# EAGLE library part USB-5P (library BaseApp)
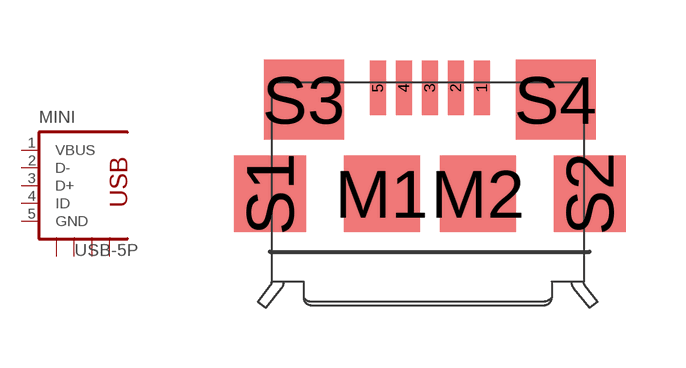
[diagram p46: symbol with the pads of USB-MINI-B; footprint USB-MINI-B]

Designator prefix MINI

## USB-5P  [USB-MINI-B]
1  VBUS  pas
2  D-  pas
3  D+  pas
4  ID  pas
5  GND  pas
S1  S1  pas
S2  S2  pas
S3  S3  pas
S4  S4  pas

## Footprint USB-MINI-B (pad centres in mm)
smd 0.4 x 1.35: 1 1.3,2.65; 2 0.65,2.65; 3 0,2.65; 4 -0.65,2.65; 5 -1.3,2.65
smd 1.9 x 1.9: M1 -1.2,0; M2 1.2,0
smd 1.8 x 1.9: S1 -4,0; S2 4,0
smd 2 x 2: S3 -3.15,2.35; S4 3.15,2.35